# Altium footprint library PCB.PcbLib: 224 footprints (part 14 of 14)
Each footprint in its own frame and in the unit in brackets; x right, y up, seen from the top. Pads: shape width x height; smd on the part's side, far side on the other; paste and mask are expansions set on the pad; w line width, h text height; cw(c..) or ccw(c..) is an arc to the next point about the centre after c.
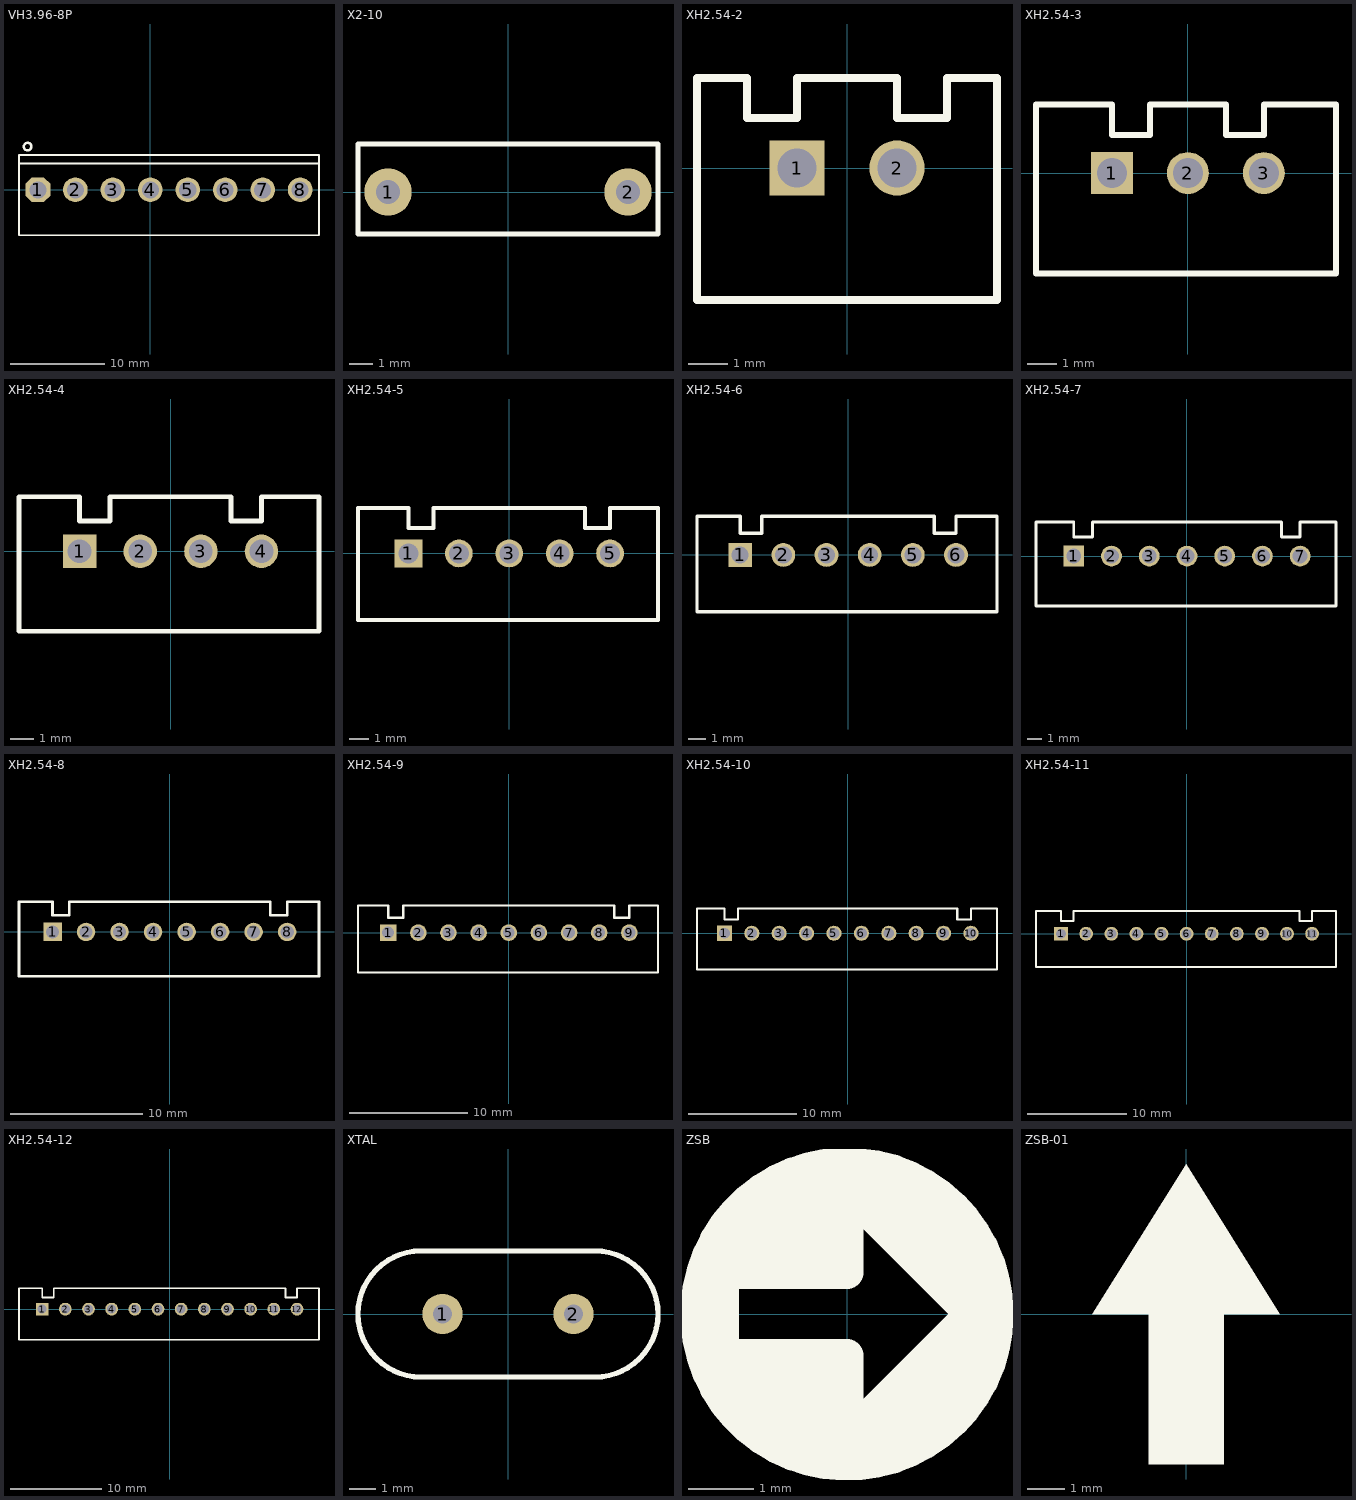
[diagram p13: the footprints below, top view; thin cyan lines are the x and y axes]

## VH3.96-8P [mm]
pads (8):
  oct 2.6x2.6 hole 1.8: 1(-11.88,0)
  round 2.6 hole 1.8: 2(-7.92,0) 3(-3.96,0) 4(0,0) 5(3.96,0) 6(7.92,0) 7(11.88,0) 8(15.84,0)
Top Overlay:
  circle w0.254: c-12.975,4.572 r0.402
  lines w0.2: -13.887,2.794 17.84,2.794 ; -13.887,-4.8 17.84,-4.8 17.84,3.7 -13.887,3.7 -13.887,-4.8

## X2-10 [mm]
pads (2):
  round 2 hole 1: 1(-5.08,0) 2(5.08,0)
Top Overlay:
  lines w0.2: -6.35,-1.778 6.35,-1.778 6.35,2.032 -6.35,2.032 -6.35,-1.778

## XH2.54-2 [mm]
pads (2):
  rect 1.4x1.4 hole 1 unplated: 1(-1.27,0)
  round 1.4 hole 1 unplated: 2(1.27,0)
Top Overlay:
  lines w0.2: 2.921,2.286 3.81,2.286 ; 3.81,-3.353 -3.81,-3.353 -3.81,-1.27 -3.81,2.286 -2.54,2.286 -2.54,1.27 -1.27,1.27 -1.27,2.286 1.27,2.286 1.27,1.27 2.54,1.27 2.54,2.286 3.81,2.286 ; 3.81,-3.302 3.81,2.286

## XH2.54-3 [mm]
pads (3):
  rect 1.4x1.4 hole 1 unplated: 1(-2.54,0)
  round 1.4 hole 1 unplated: 2(0,0) 3(2.54,0)
Top Overlay:
  lines w0.2: -5.08,-3.353 4.953,-3.353 4.953,2.286 2.54,2.286 2.54,1.27 1.27,1.27 1.27,2.286 -1.27,2.286 -1.27,1.27 -2.54,1.27 -2.54,2.286 -5.08,2.286 -5.08,-1.27 -5.08,-3.353

## XH2.54-4 [mm]
pads (4):
  rect 1.4x1.4 hole 1 unplated: 1(-3.81,0)
  round 1.4 hole 1 unplated: 2(-1.27,0) 3(1.27,0) 4(3.81,0)
Top Overlay:
  lines w0.2: -6.35,-3.353 -6.35,-1.27 -6.35,2.286 -3.81,2.286 -3.81,1.27 -2.54,1.27 -2.54,2.286 2.54,2.286 2.54,1.27 3.81,1.27 3.81,2.286 6.223,2.286 6.223,-3.353 -6.35,-3.353

## XH2.54-5 [mm]
pads (5):
  rect 1.4x1.4 hole 1 unplated: 1(-5.08,0)
  round 1.4 hole 1 unplated: 2(-2.54,0) 3(0,0) 4(2.54,0) 5(5.08,0)
Top Overlay:
  lines w0.2: -7.62,-3.353 7.493,-3.353 7.493,2.286 5.08,2.286 5.08,1.27 3.81,1.27 3.81,2.286 -3.81,2.286 -3.81,1.27 -5.08,1.27 -5.08,2.286 -7.62,2.286 -7.62,-1.27 -7.62,-3.353

## XH2.54-6 [mm]
pads (6):
  rect 1.4x1.4 hole 1 unplated: 1(-6.35,0)
  round 1.4 hole 1 unplated: 2(-3.81,0) 3(-1.27,0) 4(1.27,0) 5(3.81,0) 6(6.35,0)
Top Overlay:
  lines w0.2: -8.89,-3.353 8.763,-3.353 8.763,2.286 6.35,2.286 6.35,1.27 5.08,1.27 5.08,2.286 -5.08,2.286 -5.08,1.27 -6.35,1.27 -6.35,2.286 -8.89,2.286 -8.89,-1.27 -8.89,-3.353

## XH2.54-7 [mm]
pads (7):
  rect 1.4x1.4 hole 1 unplated: 1(-7.62,0)
  round 1.4 hole 1 unplated: 2(-5.08,0) 3(-2.54,0) 4(0,0) 5(2.54,0) 6(5.08,0) 7(7.62,0)
Top Overlay:
  lines w0.2: -10.16,-3.353 -10.16,-1.27 -10.16,2.286 -7.62,2.286 -7.62,1.27 -6.35,1.27 -6.35,2.286 6.35,2.286 6.35,1.27 7.62,1.27 7.62,2.286 10.033,2.286 10.033,-3.353 -10.16,-3.353

## XH2.54-8 [mm]
pads (8):
  rect 1.4x1.4 hole 1 unplated: 1(-8.89,0)
  round 1.4 hole 1 unplated: 2(-6.35,0) 3(-3.81,0) 4(-1.27,0) 5(1.27,0) 6(3.81,0) 7(6.35,0) 8(8.89,0)
Top Overlay:
  lines w0.2: -11.43,-3.353 11.303,-3.353 11.303,2.286 8.89,2.286 8.89,1.27 7.62,1.27 7.62,2.286 -7.62,2.286 -7.62,1.27 -8.89,1.27 -8.89,2.286 -11.43,2.286 -11.43,-1.27 -11.43,-3.353

## XH2.54-9 [mm]
pads (9):
  rect 1.4x1.4 hole 1 unplated: 1(-10.16,0)
  round 1.4 hole 1 unplated: 2(-7.62,0) 3(-5.08,0) 4(-2.54,0) 5(0,0) 6(2.54,0) 7(5.08,0) 8(7.62,0) 9(10.16,0)
Top Overlay:
  lines w0.2: -12.7,-3.353 -12.7,-1.27 -12.7,2.286 -10.16,2.286 -10.16,1.27 -8.89,1.27 -8.89,2.286 8.89,2.286 8.89,1.27 10.16,1.27 10.16,2.286 12.573,2.286 12.573,-3.353 -12.7,-3.353

## XH2.54-10 [mm]
pads (10):
  rect 1.4x1.4 hole 1: 1(-11.43,0)
  round 1.4 hole 1: 2(-8.89,0) 3(-6.35,0) 4(-3.81,0) 5(-1.27,0) 6(1.27,0) 7(3.81,0) 8(6.35,0) 9(8.89,0) 10(11.43,0)
Top Overlay:
  lines w0.2: -13.97,-3.353 13.843,-3.353 13.843,2.286 11.43,2.286 11.43,1.27 10.16,1.27 10.16,2.286 -10.16,2.286 -10.16,1.27 -11.43,1.27 -11.43,2.286 -13.97,2.286 -13.97,-1.27 -13.97,-3.353

## XH2.54-11 [mm]
pads (11):
  rect 1.4x1.4 hole 1: 1(-12.7,0)
  round 1.4 hole 1: 2(-10.16,0) 3(-7.62,0) 4(-5.08,0) 5(-2.54,0) 6(0,0) 7(2.54,0) 8(5.08,0) 9(7.62,0) 10(10.16,0) 11(12.7,0)
Top Overlay:
  lines w0.2: -15.24,-3.353 15.113,-3.353 15.113,2.286 12.7,2.286 12.7,1.27 11.43,1.27 11.43,2.286 -11.43,2.286 -11.43,1.27 -12.7,1.27 -12.7,2.286 -15.24,2.286 -15.24,-1.27 -15.24,-3.353

## XH2.54-12 [mm]
pads (12):
  rect 1.4x1.4 hole 1: 1(-13.97,0)
  round 1.4 hole 1: 2(-11.43,0) 3(-8.89,0) 4(-6.35,0) 5(-3.81,0) 6(-1.27,0) 7(1.27,0) 8(3.81,0) 9(6.35,0) 10(8.89,0) 11(11.43,0) 12(13.97,0)
Top Overlay:
  lines w0.2: -16.51,-3.353 16.383,-3.353 16.383,2.286 13.97,2.286 13.97,1.27 12.7,1.27 12.7,2.286 -12.7,2.286 -12.7,1.27 -13.97,1.27 -13.97,2.286 -16.51,2.286 -16.51,-1.27 -16.51,-3.353

## XTAL [mm]
pads (2):
  round 1.5 hole 0.7: 1(-2.44,0) 2(2.44,0)
Top Overlay:
  lines w0.2: -3.24,-2.35 cw(c-3.24,0) -3.24,2.35 3.24,2.35 cw(c3.24,0) 3.24,-2.35 -3.24,-2.35

## ZSB [mm]
Top Overlay:
  circle w0.508: c0,0 r2.29
  lines w0.508: -1.27,-0.635 0,-1.905 ; -1.27,0.635 0,1.905 ; -0.635,-0.635 0,-1.27 ; -0.635,0.635 0,1.27 ; -0.635,1.905 -1.905,0.635 ; -0.318,-2.222 -1.905,-0.635 ; -0.318,2.222 -1.905,0.635 ; 0.318,-2.222 1.905,-0.635 0.635,-1.905 2.222,-0.318 ; 0.318,2.222 1.905,0.635 0.635,1.905 ; 1.27,1.27 2.222,0.318 ; -1.905,-0.635 0,-0.635 0,-1.905 ; -1.905,-0.635 -1.905,0.635 ; -1.905,0.635 0,0.635 0,1.905 ; 0,-1.905 1.905,0 0,1.905

## ZSB-01 [mm]
Top Overlay:
  region: -1.016,0 -1.016,-4.064 1.016,-4.064 1.016,0
  region: 0,4.064 -2.54,0 2.54,0